# Altium footprint library ToneReal_Adapter_v1.0.PcbLib: 17 footprints (part 1 of 2)
Each footprint in its own frame and in the unit in brackets; x right, y up, seen from the top. Pads: shape width x height; smd on the part's side, far side on the other; paste and mask are expansions set on the pad; w line width, h text height; cw(c..) or ccw(c..) is an arc to the next point about the centre after c.
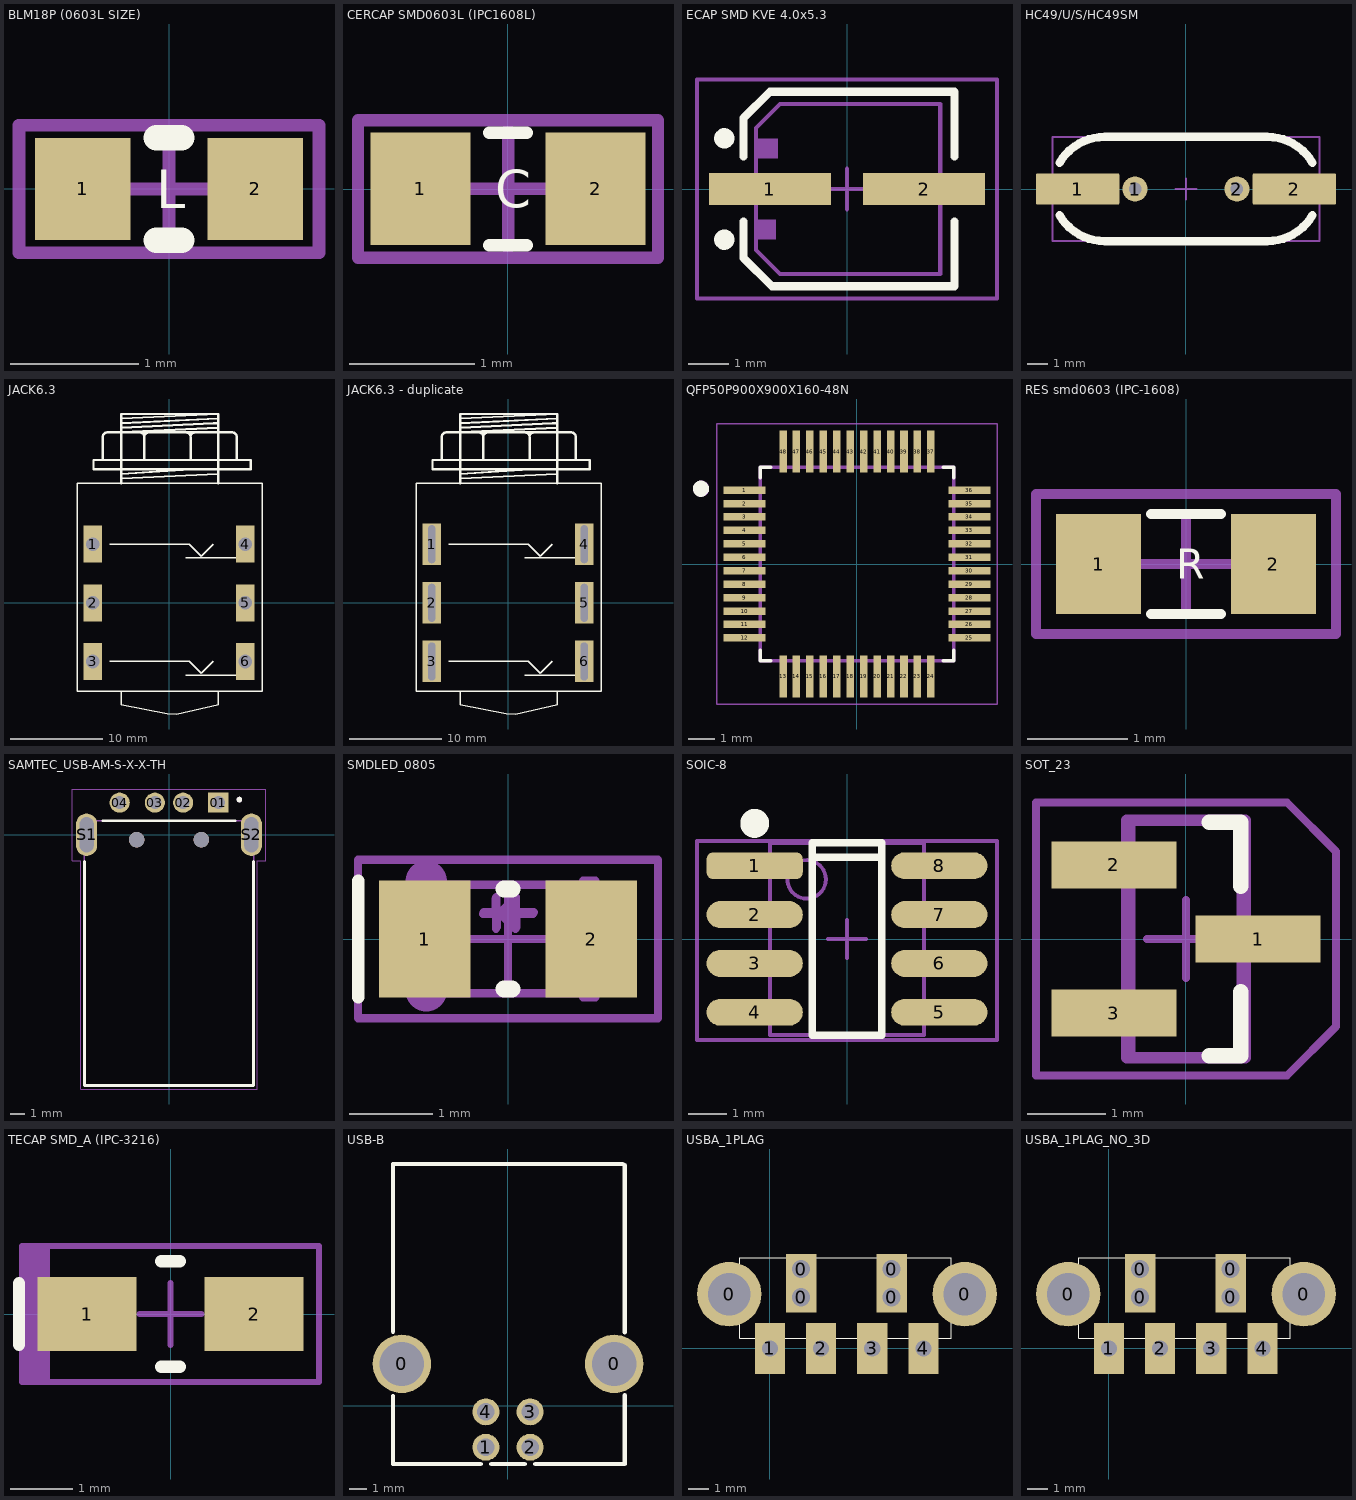
[diagram p0: the footprints below, top view; thin cyan lines are the x and y axes]

## BLM18P (0603L SIZE) [mm] "Chip Inductor, 2-Leads, Body 1,6x0,8mm, IPC High Density"
height 0.8
pads (2):
  rect 0.75x0.8 smd: 1(-0.675,0) 2(0.675,0)
Top Overlay:
  lines w0.2: -0.1,-0.4 0.1,-0.4 ; -0.1,0.4 0.1,0.4
  text "L" at -0.1,-0.15 h0.3
Mechanical 11:
  lines w0.1: -1.175,-0.5 1.175,-0.5 1.175,0.5 -1.175,0.5 -1.175,-0.5
  text ".Comment" at -0.75,-0.2 h0.45
Mechanical 13:
  lines w0.1: -1.175,-0.5 1.175,-0.5 1.175,0.5 -1.175,0.5 -1.175,-0.5
  text ".Designator" at -0.75,-0.2 h0.45
Mechanical 15:
  lines w0.1: -0.425,0 0.425,0 ; 0,-0.425 0,0.425 ; -1.175,-0.5 -1.175,0.5 1.175,0.5 1.175,-0.5 -1.175,-0.5
3D body: height 0.8, standoff 0, extent -0.85,-0.425 0.85,0.425

## CERCAP SMD0603L (IPC1608L) [mm] "Chip Capacitor, Body 1.6x0.8mm, IPC High Density"
height 0.85
pads (2):
  rect 0.8x0.9 smd: 1(-0.7,0) 2(0.7,0)
Top Overlay:
  lines w0.1: -0.15,-0.45 0.15,-0.45 ; -0.15,0.45 0.15,0.45
  text "C" at -0.1,-0.15 h0.3
Mechanical 11:
  lines w0.1: -1.2,-0.55 1.2,-0.55 1.2,0.55 -1.2,0.55 -1.2,-0.55
  text ".Comment" at -0.75,-0.2 h0.45
Mechanical 13:
  lines w0.1: -1.2,-0.55 1.2,-0.55 1.2,0.55 -1.2,0.55 -1.2,-0.55
  text ".Designator" at -0.75,-0.2 h0.45
Mechanical 15:
  lines w0.1: -0.475,0 0.475,0 ; 0,-0.475 0,0.475 ; -1.2,-0.55 -1.2,0.55 1.2,0.55 1.2,-0.55 -1.2,-0.55
3D body: height 0.85, standoff 0.05, extent -0.4,-0.35 0.4,0.35
3D body: height 0.9, standoff 0, extent 0.4,-0.4 0.8,0.4
3D body: height 0.9, standoff 0, extent -0.8,-0.4 -0.4,0.4

## ECAP SMD KVE 4.0x5.3 [mm] "Alumin Capacitor, 2-Leads, Body 4.0x5.3mm, IPC Medium Density"
height 5.5
pads (2):
  rect 3x0.8 smd: 1(-1.9,0) 2(1.9,0)
Top Overlay:
  circle w0.25: c-3.025,1.25 r0.125
  circle w0.25: c-3.025,-1.25 r0.125
  lines w0.2: -2.55,-0.8 -2.55,-1.7 -1.85,-2.4 2.65,-2.4 2.65,-0.8 ; -2.55,0.8 -2.55,1.75 -1.9,2.4 2.65,2.4 2.65,0.8
Mechanical 11:
  text ".comment" at -1.375,0.7 h0.5
Mechanical 13:
  rectangle: -2.25,-1.25 -1.75,-0.75
  rectangle: -2.2,0.75 -1.7,1.25
  lines w0.1: -2.25,-1.5 -2.25,1.5 -1.65,2.1 2.3,2.1 2.3,-2.1 -1.65,-2.1 -2.25,-1.5
  text ".Designator" at -1.15,1 h0.5
Mechanical 15:
  lines w0.1: -0.5,0 0.5,0 ; 0,-0.5 0,0.5 ; -3.7,-2.7 -3.7,2.7 3.7,2.7 3.7,-2.7 -3.7,-2.7
3D body: height 5.5, standoff 1, extent -1.992,-1.992 1.992,2
3D body: height 1, standoff 0.05, extent -2.275,-2.1 2.275,2.1
3D body: height 0.3, standoff 0, extent 0.8,-0.325 2.75,0.325
3D body: height 0.3, standoff 0, extent -2.75,-0.325 -0.85,0.325

## HC49/U/S/HC49SM [mm] "GEYER KX-49 (KX-49T),KX-3H (KX-3HT),KX-K (KX-KT).KX - KS"
pads (4):
  rrect10% 4x1.5 smd: 1(-5.19,0) 2(5.19,0)
  round 1.2 / inner round 1.524 / far side round 1.524 hole 0.6: 1(-2.44,0) 2(2.44,0)
Top Overlay:
  lines w0.4: -6.065,-1.25 ccw(c-3.9,0) -3.9,-2.5 3.9,-2.5 ccw(c3.9,0) 6.065,-1.25 ; -6.065,1.25 cw(c-3.9,0) -3.9,2.5 3.9,2.5 cw(c3.9,0) 6.065,1.25
Mechanical 11:
  lines w0.1: -6.4,-2.5 6.4,-2.5 6.4,2.5 -6.4,2.5 -6.4,-2.5
  text ".Comment" at -3.74,0.96 h1
Mechanical 13:
  lines w0.1: -6.4,-2.5 6.4,-2.5 6.4,2.5 -6.4,2.5 -6.4,-2.5
  text ".Designator" at -3.54,-1.66 h0.7
Mechanical 15:
  lines w0.1: -0.5,0 0.5,0 ; 0,-0.5 0,0 0,0.5 ; -6.4,-2.5 6.4,-2.5 6.4,2.5 -6.4,2.5 -6.4,-2.5
3D body: height 4.3, standoff 0, extent -6.4,-2.415 6.4,2.415

## JACK6.3 [mm]
pads (6):
  rect 2x4 hole 1.499: 1(-8.255,6.35) 2(-8.255,0) 3(-8.255,-6.35) 4(8.255,6.35) 5(8.255,0) 6(8.255,-6.35)
Top Overlay:
  lines w0.15: -6.4,-6.35 2.175,-6.35 3.475,-7.65 4.775,-6.35 ; -6.4,6.35 2.175,6.35 3.475,5.05 4.775,6.35 ; 1.8,-7.825 8.2,-7.825 8.2,-7.4 ; 1.8,4.875 8.2,4.875 8.2,5.3 ; -5.182,-9.55 -9.931,-9.55 -9.931,12.954 -5.182,12.954 5.334,12.954 10.084,12.954 10.084,-9.55 5.334,-9.55 ; -5.182,-9.55 5.334,-9.55 ; -5.182,-9.55 -5.182,-11.049 -0.178,-12.04 0.838,-12.04 5.334,-11.049 5.334,-9.55
  lines w0.254: -7.17,17.957 cw(c-6.67,17.957) -6.67,18.457 ; -7.163,17.958 -7.163,15.469 ; -6.68,18.466 -5.182,18.466 ; -5.182,12.954 -5.182,13.462 ; -3.17,18.457 cw(c-3.17,17.957) -2.67,17.957 cw(c-2.17,17.957) -2.17,18.457 ; -2.667,17.958 -2.667,15.469 ; 1.83,18.457 cw(c1.83,17.957) 2.33,17.957 cw(c2.83,17.957) 2.83,18.457 ; 2.337,17.958 2.337,15.469 ; 5.334,12.954 5.334,13.945 ; 6.83,18.457 cw(c6.83,17.957) 7.33,17.957 ; 6.833,18.466 2.819,18.466 1.829,18.466 -2.159,18.466 -3.175,18.466 -5.182,18.466 ; 7.341,17.958 7.341,15.469 ; -7.163,15.469 -8.179,15.469 -8.179,14.453 2.337,14.453 ; -7.163,15.469 -2.667,15.469 ; -5.182,13.462 -5.182,13.945 ; -5.182,13.462 5.334,13.945 ; -5.182,13.945 -5.182,18.466 ; -5.182,13.945 2.337,14.453 ; -5.182,18.466 -5.182,18.948 ; -5.182,18.466 5.334,18.948 ; -5.182,18.948 -5.182,19.456 ; -5.182,18.948 4.826,19.456 5.334,19.456 ; -5.182,19.456 -5.182,19.964 ; -5.182,19.456 5.334,19.964 ; -5.182,19.964 -5.182,20.447 5.334,20.447 ; -5.182,19.964 5.334,20.447 ; -2.667,15.469 2.337,15.469 ; 2.337,14.453 8.839,14.453 8.839,15.469 7.341,15.469 ; 2.337,15.469 7.341,15.469 ; 5.334,13.945 5.334,18.948 ; 5.334,18.948 5.334,19.456 ; 5.334,19.456 5.334,19.964 ; 5.334,19.964 5.334,20.447

## JACK6.3 - duplicate [mm]
pads (6):
  rect 2x4.5 hole 0.8 slot 4.1 at 90 deg: 1(-8.255,6.35) 2(-8.255,0) 3(-8.255,-6.35) 4(8.255,6.35) 5(8.255,0) 6(8.255,-6.35)
Top Overlay:
  lines w0.15: -6.4,-6.35 2.175,-6.35 3.475,-7.65 4.775,-6.35 ; -6.4,6.35 2.175,6.35 3.475,5.05 4.775,6.35 ; 1.8,-7.825 8.2,-7.825 8.2,-7.4 ; 1.8,4.875 8.2,4.875 8.2,5.3 ; -5.182,-9.55 -9.931,-9.55 -9.931,12.954 -5.182,12.954 5.334,12.954 10.084,12.954 10.084,-9.55 5.334,-9.55 ; -5.182,-9.55 5.334,-9.55 ; -5.182,-9.55 -5.182,-11.049 -0.178,-12.04 0.838,-12.04 5.334,-11.049 5.334,-9.55
  lines w0.254: -7.17,17.957 cw(c-6.67,17.957) -6.67,18.457 ; -7.163,17.958 -7.163,15.469 ; -6.68,18.466 -5.182,18.466 ; -5.182,12.954 -5.182,13.462 ; -3.17,18.457 cw(c-3.17,17.957) -2.67,17.957 cw(c-2.17,17.957) -2.17,18.457 ; -2.667,17.958 -2.667,15.469 ; 1.83,18.457 cw(c1.83,17.957) 2.33,17.957 cw(c2.83,17.957) 2.83,18.457 ; 2.337,17.958 2.337,15.469 ; 5.334,12.954 5.334,13.945 ; 6.83,18.457 cw(c6.83,17.957) 7.33,17.957 ; 6.833,18.466 2.819,18.466 1.829,18.466 -2.159,18.466 -3.175,18.466 -5.182,18.466 ; 7.341,17.958 7.341,15.469 ; -7.163,15.469 -8.179,15.469 -8.179,14.453 2.337,14.453 ; -7.163,15.469 -2.667,15.469 ; -5.182,13.462 -5.182,13.945 ; -5.182,13.462 5.334,13.945 ; -5.182,13.945 -5.182,18.466 ; -5.182,13.945 2.337,14.453 ; -5.182,18.466 -5.182,18.948 ; -5.182,18.466 5.334,18.948 ; -5.182,18.948 -5.182,19.456 ; -5.182,18.948 4.826,19.456 5.334,19.456 ; -5.182,19.456 -5.182,19.964 ; -5.182,19.456 5.334,19.964 ; -5.182,19.964 -5.182,20.447 5.334,20.447 ; -5.182,19.964 5.334,20.447 ; -2.667,15.469 2.337,15.469 ; 2.337,14.453 8.839,14.453 8.839,15.469 7.341,15.469 ; 2.337,15.469 7.341,15.469 ; 5.334,13.945 5.334,18.948 ; 5.334,18.948 5.334,19.456 ; 5.334,19.456 5.334,19.964 ; 5.334,19.964 5.334,20.447
3D body: height 12.49, standoff 3.51, extent -4.35,-12.3 4.615,-8.3
3D body: height 8, standoff 0, extent -9.975,-9.55 10.075,11.425
3D body: height 15.49, standoff 0.51, extent -7.338,-10.275 7.603,-8.275
3D body: height 15.49, standoff 0.51, extent -7.338,2.225 7.603,4.225
3D body: height 15.49, standoff 0.51, extent -7.338,-4.2 7.603,-2.2
3D body: height 15.49, standoff 0.51, extent -7.295,8.45 7.645,11.45
3D body: height 12.49, standoff 3.51, extent -4.343,11.4 4.622,20.4
3D body: height 1, standoff -4, extent -8.493,5.85 -7.993,6.85
3D body: height 1, standoff -2, extent -8.605,4.6 -7.88,8.1
3D body: height 1, standoff -4, extent -8.493,-0.5 -7.993,0.5
3D body: height 1, standoff -2, extent -8.605,-1.75 -7.88,1.75
3D body: height 1, standoff -4, extent -8.493,-6.85 -7.993,-5.85
3D body: height 1, standoff -2, extent -8.605,-8.1 -7.88,-4.6
3D body: height 1, standoff -4, extent 8.017,-6.85 8.517,-5.85
3D body: height 1, standoff -2, extent 7.905,-8.1 8.63,-4.6
3D body: height 1, standoff -4, extent 8.017,-0.5 8.517,0.5
3D body: height 1, standoff -2, extent 7.905,-1.75 8.63,1.75
3D body: height 1, standoff -4, extent 8.017,5.85 8.517,6.85
3D body: height 1, standoff -2, extent 7.905,4.6 8.63,8.1
3D body: height 15.49, standoff 0.51, extent -7.332,11.525 7.609,14.525
3D body: height 10.99, standoff 5.01, extent -8.255,-8.35 -2.279,-4.35
3D body: height 10.99, standoff 5.01, extent -8.255,-2 -2.279,2
3D body: height 10.99, standoff 5.01, extent -8.255,4.35 -2.279,8.35
3D body: height 8.5, standoff 7.5, extent -4.721,-8.35 8.255,-4.35
3D body: height 8.5, standoff 7.5, extent -4.721,-2 8.255,2
3D body: height 8.5, standoff 7.5, extent -4.721,4.35 8.255,8.35

## QFP50P900X900X160-48N [mm]
pads (48):
  rect 1.56x0.28 smd: 1(-4.18,2.75) 2(-4.18,2.25) 3(-4.18,1.75) 4(-4.18,1.25) 5(-4.18,0.75) 6(-4.18,0.25) 7(-4.18,-0.25) 8(-4.18,-0.75) 9(-4.18,-1.25) 10(-4.18,-1.75) 11(-4.18,-2.25) 12(-4.18,-2.75) 25(4.18,-2.75) 26(4.18,-2.25) 27(4.18,-1.75) 28(4.18,-1.25) 29(4.18,-0.75) 30(4.18,-0.25) 31(4.18,0.25) 32(4.18,0.75) 33(4.18,1.25) 34(4.18,1.75) 35(4.18,2.25) 36(4.18,2.75)
  rect 0.28x1.56 smd: 13(-2.75,-4.18) 14(-2.25,-4.18) 15(-1.75,-4.18) 16(-1.25,-4.18) 17(-0.75,-4.18) 18(-0.25,-4.18) 19(0.25,-4.18) 20(0.75,-4.18) 21(1.25,-4.18) 22(1.75,-4.18) 23(2.25,-4.18) 24(2.75,-4.18) 37(2.75,4.18) 38(2.25,4.18) 39(1.75,4.18) 40(1.25,4.18) 41(0.75,4.18) 42(0.25,4.18) 43(-0.25,4.18) 44(-0.75,4.18) 45(-1.25,4.18) 46(-1.75,4.18) 47(-2.25,4.18) 48(-2.75,4.18)
Top Overlay:
  circle w0.3: c-5.8,2.8 r0.15
  lines w0.127: -3.6,-3.21 -3.6,-3.6 -3.21,-3.6 ; -3.6,3.21 -3.6,3.6 -3.21,3.6 ; 3.21,-3.6 3.6,-3.6 3.6,-3.21 ; 3.21,3.6 3.6,3.6 3.6,3.21
Mechanical 13:
  circle w0.3: c-5.796,2.802 r0.15
  lines w0.127: -3.6,-3.6 3.6,-3.6 3.6,3.6 -3.6,3.6 -3.6,-3.6
Mechanical 15:
  lines w0.05: -5.21,-5.21 5.21,-5.21 5.21,5.21 -5.21,5.21 -5.21,-5.21
3D body: height 1.6, standoff 0, extent -4.5,-4.5 4.5,4.5

## RES smd0603 (IPC-1608) [mm] "Chip Resistor, 2-Leads, Body 1,6x0,8mm, IPC Medium Density"
height 0.5
pads (2):
  rect 0.85x1 smd: 1(-0.875,0) 2(0.875,0)
Top Overlay:
  lines w0.1: -0.35,-0.5 0.35,-0.5 ; -0.35,0.5 0.35,0.5
  text "R" at -0.1,-0.15 h0.3
Mechanical 11:
  lines w0.1: -1.5,-0.7 -1.5,0.7 1.5,0.7 1.5,-0.7 -1.5,-0.7
  text ".Comment" at -0.85,-0.2 h0.45
Mechanical 13:
  lines w0.1: -1.5,-0.7 1.5,-0.7 1.5,0.7 -1.5,0.7 -1.5,-0.7
  text ".Designator" at -0.85,-0.2 h0.45
Mechanical 15:
  lines w0.1: -0.475,0 0.475,0 ; 0,-0.475 0,0.475 ; -1.5,-0.7 1.5,-0.7 1.5,0.7 -1.5,0.7 -1.5,-0.7
3D body: height 0.5, standoff 0, extent -0.8,-0.45 0.8,0.45

## SAMTEC_USB-AM-S-X-X-TH [mm]
pads (8):
  rect 1.428x1.428 hole 0.92: 01(3.5,2.28)
  round 1.428 hole 0.92: 02(1,2.28) 03(-1,2.28) 04(-3.5,2.28)
  oval 1.508x3.016 hole 1 slot 2.5 at 90 deg: S1(-5.85,0) S2(5.85,0)
  round 1.1 hole 1.1 unplated: ""(-2.3,-0.35) ""(2.3,-0.35)
Top Overlay:
  circle w0.2: c5,2.5 r0.1
  lines w0.2: -6,-1.9 -6,-17.8 6,-17.8 6,-1.9 ; -4.7,1 4.7,1
Mechanical 13:
  circle w0.2: c5,2.5 r0.1
  lines w0.1: -6,-17.8 6,-17.8 6,1 -6,1 -6,-17.8
Mechanical 15:
  lines w0.05: -6.855,-1.86 -6.25,-1.86 -6.25,-18.05 6.25,-18.05 6.25,-1.86 6.855,-1.86 6.855,3.25 -6.855,3.25 -6.855,-1.86
3D body: height 4.5, standoff -1.3, extent -6.275,-17.7 6.331,2.6

## SMDLED_0805 [mm]
pads (2):
  rect 1.1x1.4 smd: 1(-1,0) 2(1,0)
Top Overlay:
  lines w0.15: -1.8,-0.7 -1.8,0.7
  lines w0.2: -0.05,-0.6 0.05,-0.6 ; -0.05,0.6 0.05,0.6
Mechanical 11:
  lines w0.1: -0.7,-0.65 0.4,-0.65 ; -0.7,0.65 0.4,0.65 ; -0.29,0.32 0.31,0.32 ; -0.14,0.32 -0.14,0.5 ; -0.135,0.145 -0.135,0.325 ; -0.09,0.32 0.095,0.505 0.095,0.325 0.1,0.32 0.1,0.14 -0.085,0.325 ; 0.95,-0.65 -0.9,-0.65 -0.9,0.65 ; -0.9,0.65 1,0.65 1,0.7 1.05,0.7 ; -0.9,0.65 -0.9,0.7 ; -0.9,0.7 -0.9,-0.7 -1.05,-0.7 -1.05,0.7 -0.9,0.7 ; 1.05,0.7 1.05,-0.7 0.9,-0.7 0.9,0.7 1.05,0.7
  lines w0.5: -0.98,-0.62 -0.98,0.69
  text ".Comment" at -0.7,-0.52 h0.5
Mechanical 13:
  lines w0.1: -0.7,-0.65 0.4,-0.65 ; -0.7,0.65 0.4,0.65 ; -0.3,0.3 0.3,0.3 ; -0.15,0.3 -0.15,0.48 ; -0.145,0.125 -0.145,0.305 ; -0.1,0.3 0.085,0.485 0.085,0.305 0.09,0.3 0.09,0.12 -0.095,0.305 ; 0.95,-0.65 -0.9,-0.65 -0.9,0.65 ; -0.9,0.65 1,0.65 1,0.7 1.05,0.7 ; -0.9,0.65 -0.9,0.7 ; -0.9,0.7 -0.9,-0.7 -1.05,-0.7 -1.05,0.7 -0.9,0.7 ; 1.05,0.7 1.05,-0.7 0.9,-0.7 0.9,0.7 1.05,0.7
  text ".Designator" at -0.7,-0.49 h0.5
Mechanical 15:
  lines w0.1: -0.5,0 0,0 ; 0,-0.5 0,0 ; 0,0.5 0,0 ; 0.5,0 0,0 ; -1.8,-0.95 -1.8,0.95 1.8,0.95 1.8,-0.95 -1.8,-0.95
3D body: height 0.81, standoff -0.01, extent -1,-0.6 1,0.65

## SOIC-8 [mm] "MAX522,SN65HVD11DR"
height 1.75
pads (8):
  rrect50% 2.5x0.7 smd: 1(-2.4,1.905)
  oval 2.5x0.7 smd: 2(-2.4,0.635) 3(-2.4,-0.635) 4(-2.4,-1.905) 5(2.4,-1.905) 6(2.4,-0.635) 7(2.4,0.635) 8(2.4,1.905)
Top Overlay:
  circle w0.5: c-2.4,3.005 r0.125
  lines w0.2: -0.9,2.125 0.9,2.125 ; -0.9,-2.5 -0.9,2.5 0.9,2.5 0.9,-2.5 -0.9,-2.5
Mechanical 11:
  circle w0.1: c-1.05,1.55 r0.5
  lines w0.1: -2,-2.5 -2,2.5 2,2.5 2,-2.5 -2,-2.5
  text ".Comment" at -0.325,1.65 h0.5
Mechanical 13:
  circle w0.1: c-1.05,1.55 r0.5
  lines w0.1: -2,-2.5 -2,2.5 2,2.5 2,-2.5 -2,-2.5
  text ".Designator" at -0.375,2.6 h0.5
Mechanical 15:
  lines w0.1: -0.5,0 0.5,0 ; 0,-0.5 0,0.5 ; -3.9,-2.625 -3.9,2.55 3.9,2.55 3.9,-2.625 -3.9,-2.625
3D body: height 1.75, standoff 0, extent -2.99,-2.44 3.01,2.46

## SOT_23 [mm] "BC846, AZ23C5V1"
pads (3):
  rect 1.6x0.6 smd: 1(0.925,0) 2(-0.925,0.95) 3(-0.925,-0.95)
Top Overlay:
  lines w0.2: 0.3,-1.5 0.7,-1.5 0.7,-0.675 ; 0.3,1.5 0.7,1.5 0.7,0.675
Mechanical 11:
  lines w0.15: -0.762,-1.524 0.762,-1.524 0.762,1.524 -0.762,1.524 -0.762,-1.524
  text ".Comment" at 0.254,-1.143 h0.5
Mechanical 13:
  lines w0.1: -0.7,-1.5 -0.7,1.5 0.7,1.5 0.7,-1.5 -0.7,-1.5
  text ".Designator" at 0.127,-1.143 h0.5
Mechanical 15:
  lines w0.1: -0.5,0 0.5,0 ; 0,-0.5 0,0.5 ; -1.925,-1.75 -1.925,1.75 1.298,1.75 1.925,1.123 1.925,-1.123 1.298,-1.75 -1.925,-1.75
3D body: height 1.1, standoff 0.05, extent -0.7,-1.5 0.7,1.5

## TECAP SMD_A (IPC-3216) [mm] "Tantalium Capacitor, 2-Leads, Body 3,2x1,6mm, IPC Medium Density"
height 1.6
pads (2):
  rect 1.6x1.2 smd: 1(-1.35,0) 2(1.35,0)
Top Overlay:
  lines w0.2: -2.45,-0.5 -2.45,0.5 ; -0.15,-0.85 0.15,-0.85 ; -0.15,0.85 0.15,0.85
Mechanical 11:
  rectangle: -2.387,-1.1 -1.95,1.1
  lines w0.1: -2.4,-1.1 2.4,-1.1 2.4,1.1 -2.4,1.1 -2.4,-1.1
  text ".Comment" at -0.85,-0.2 h0.45
Mechanical 13:
  rectangle: -2.387,-1.1 -1.95,1.1
  lines w0.1: -2.4,-1.1 -2.4,1.1 2.4,1.1 2.4,-1.1 -2.4,-1.1
  text ".Designator" at -0.85,-0.2 h0.45
Mechanical 15:
  rectangle: -2.387,-1.1 -1.95,1.1
  lines w0.1: -0.5,0 0.5,0 ; 0,-0.5 0,0.5 ; -2.4,-1.1 -2.4,1.1 2.4,1.1 2.4,-1.1 -2.4,-1.1
3D body: height 1.2, standoff 1.1, extent 1.6,-0.3 1.65,0.3
3D body: height 1.2, standoff 0, extent 1.65,-0.3 1.75,0.3
3D body: height 0.1, standoff 0, extent 1,-0.3 1.65,0.3
3D body: height 1.2, standoff 1.1, extent -1.65,-0.3 -1.6,0.3
3D body: height 1.2, standoff 0, extent -1.75,-0.3 -1.65,0.3
3D body: height 0.1, standoff 0, extent -1.65,-0.3 -1,0.3
3D body: height 1.6, standoff 0.15, extent -1.65,-0.8 1.65,0.8
3D body: height 1.65, standoff 1.5, extent -0.9,-0.8 -0.3,0.8

## USB-B [mm]
pads (6):
  round 3.3 hole 2.5: 0(-6,2.355) 0(6,2.355)
  round 1.524 hole 1: 1(-1.25,-2.355) 2(1.25,-2.355) 3(1.25,-0.355) 4(-1.25,-0.355)
Top Overlay:
  lines w0.254: -6.5,0.542 -6.5,-3.302 -1.543,-3.302 ; -6.5,4.168 -6.5,13.655 6.5,13.655 ; -0.957,-3.302 0.957,-3.302 ; 1.543,-3.302 6.604,-3.302 6.604,0.574 ; 6.604,4.136 6.604,13.589
3D body: height 11.25, standoff -4.11, extent -7.485,-3.8 7.45,12.7

## USBA_1PLAG [mm]
pads (10):
  round 3.2 / inner round 1.524 / far side round 1.524 hole 2.1: 0(-2.025,2.7) 0(9.675,2.7)
  rect 1.499x1.499 hole 0.9: 0(1.549,2.548) 0(1.549,3.946) 0(6.044,2.548) 0(6.044,3.946)
  rect 1.5x2.54 / inner round 1.524 / far side round 1.524 hole 0.8: 1(0,0) 2(2.54,0) 3(5.08,0) 4(7.62,0)
Top Overlay:
  lines w0.05: -1.5,0.5 8.999,0.5 8.999,4.5 -1.5,4.5 -1.5,0.5
  text ".Designator" at 0,8.572 h1.43
Mechanical 1:
  text ".Pattern" at 0,0 h1.43
  text ".Comment" at 0,5.715 h1.43
  text ".Designator" at 0,8.572 h1.43
3D body: height 4.5, standoff -1.3, extent -2.506,0.1 10.1,20.4

## USBA_1PLAG_NO_3D [mm]
pads (10):
  round 3.2 / inner round 1.524 / far side round 1.524 hole 2.1: 0(-2.025,2.7) 0(9.675,2.7)
  rect 1.499x1.499 hole 0.9: 0(1.549,2.548) 0(1.549,3.946) 0(6.044,2.548) 0(6.044,3.946)
  rect 1.5x2.54 / inner round 1.524 / far side round 1.524 hole 0.8: 1(0,0) 2(2.54,0) 3(5.08,0) 4(7.62,0)
Top Overlay:
  lines w0.05: -1.5,0.5 8.999,0.5 8.999,4.5 -1.5,4.5 -1.5,0.5
  text ".Designator" at 0,8.572 h1.43
Mechanical 1:
  text ".Pattern" at 0,0 h1.43
  text ".Comment" at 0,5.715 h1.43
  text ".Designator" at 0,8.572 h1.43